# Altium footprint library inductors.PCBLIB: 83 footprints (part 5 of 6)
Each footprint in its own frame and in the unit in brackets; x right, y up, seen from the top. Pads: shape width x height; smd on the part's side, far side on the other; paste and mask are expansions set on the pad; w line width, h text height; cw(c..) or ccw(c..) is an arc to the next point about the centre after c.
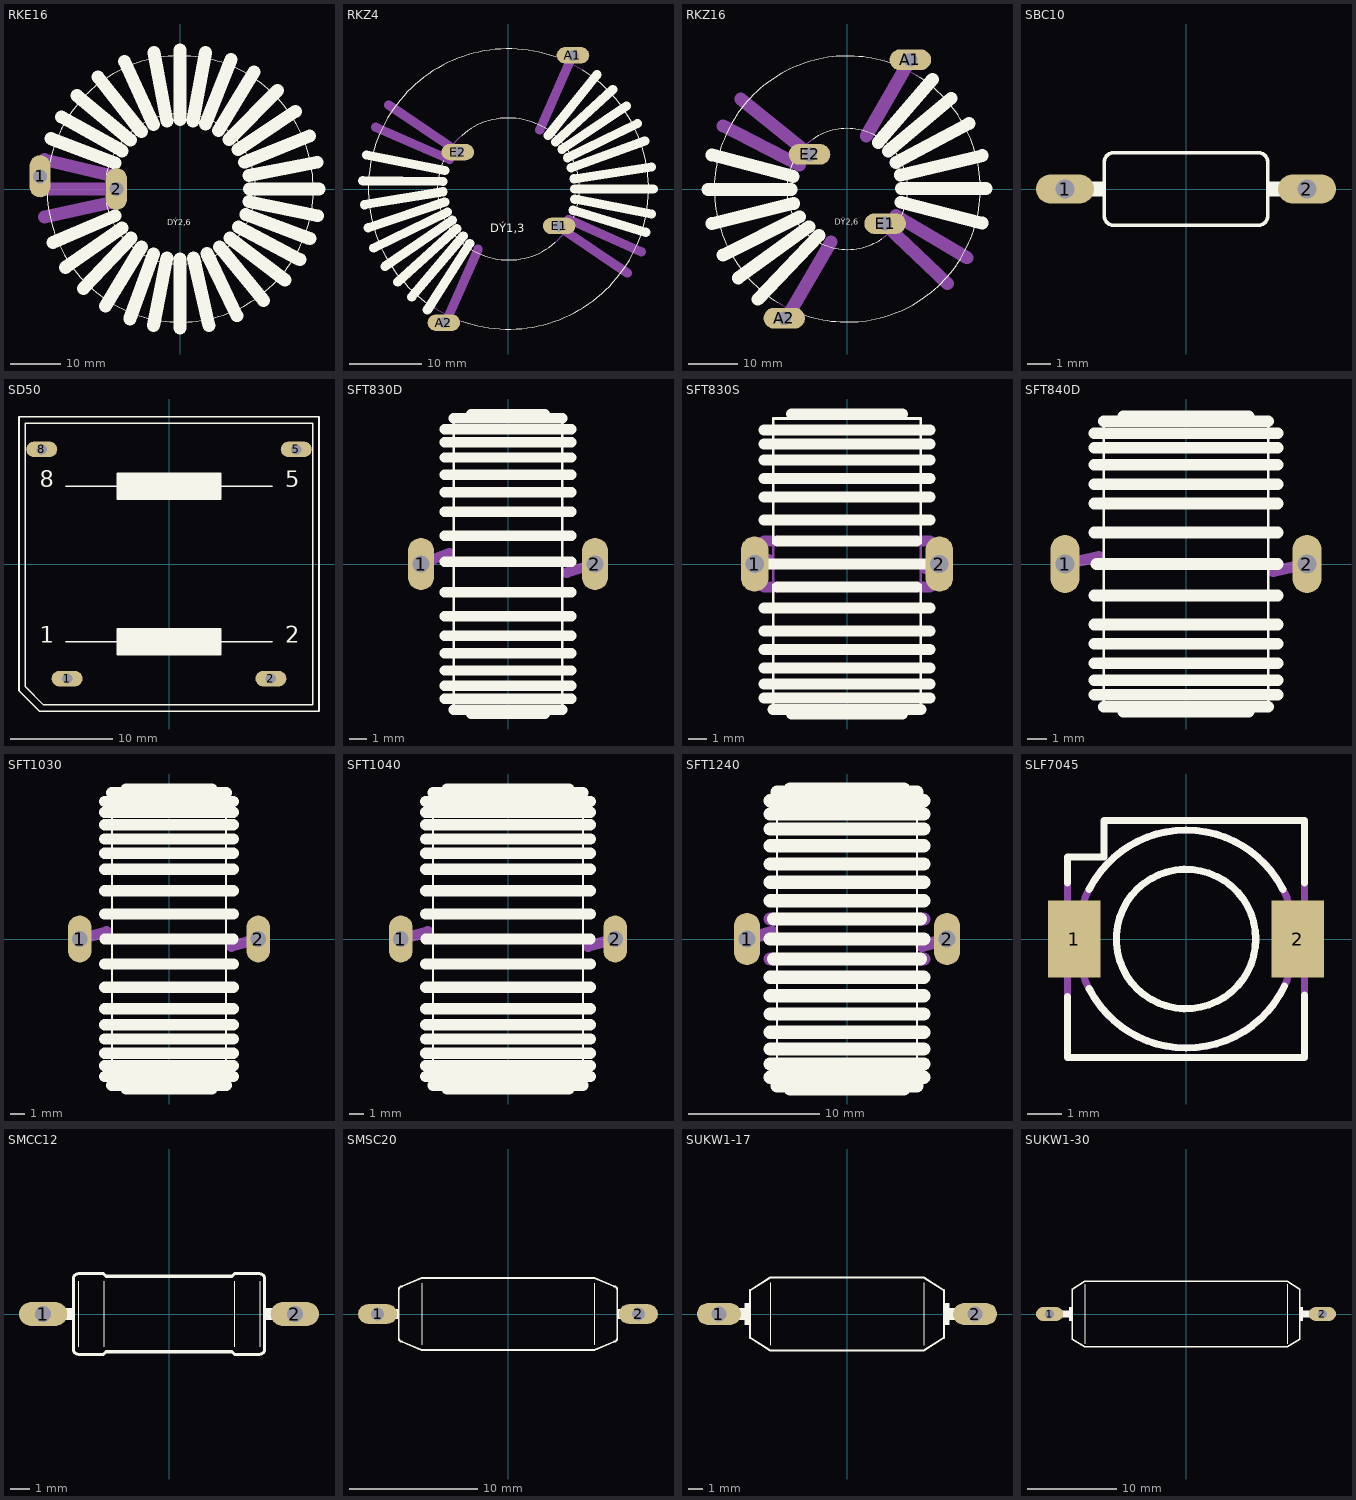
[diagram p4: the footprints below, top view; thin cyan lines are the x and y axes]

## RKE16 [mil]
pads (2):
  oval 165x330 hole 110: 1(-1100,100) 2(-500,0)
Top Overlay:
  lines w6: -1044.95,-10 ccw(c0.02,0.01) -1024.09,208 ; -579.74,-109.52 ccw(c0.01,0) -579.74,109.52
  lines w102: -1015,395 -510,205 ; -1000,-420 -510,-210 ; -930,565 -455,300 ; -900,-615 -455,-305 ; -810,735 -390,385 ; -760,-780 -385,-385 ; -645,880 -305,450 ; -585,-920 -305,-455 ; -435,1000 -210,505 ; -395,-1020 -210,-510 ; -210,-1070 -105,-540 ; -205,1070 -105,535 ; 0,-1090 0,-550 ; 0,545 0,1090 ; 100,535 200,1070 ; 105,-540 225,-1070 ; 200,510 400,1015 ; 210,-505 445,-995 ; 300,460 580,920 ; 310,-455 655,-875 ; 385,390 765,775 ; 390,-385 825,-715 ; 455,310 905,610 ; 460,-300 940,-555 ; 505,210 1015,415 ; 515,-200 1020,-390 ; 540,-100 1080,-210 ; 540,105 1075,210 ; 545,0 1090,0
  text "DÝ2,6" at -100,-300 h77.5
Mechanical 16:
  lines w6: -1044.95,-10 cw(c0.02,0.01) -1024.09,208 ; -579.74,-109.52 cw(c0.01,0) -579.74,109.52
  lines w102: -1090,0 -545,0 ; -1065,-220 -535,-105 ; -1065,230 -535,105

## RKZ4 [mil]
pads (4):
  oval 177x88.5 hole 59: A1(350,725) A2(-350,-725) E1(275,-200) E2(-275,200)
Top Overlay:
  lines w6: -403.18,-644.24 cw(c0,0) 252.82,716.72 ; -353.69,152.09 ccw(c0,0) 254.22,-289.13 ; -254.22,289.13 cw(c0,0) 353.69,-152.09 ; -252.82,-716.72 ccw(c0,0) 403.18,644.24
  lines w50: -790,45 -355,40 ; -780,-85 -355,-15 ; -770,185 -345,100 ; -760,-210 -345,-70 ; -730,-320 -330,-125 ; -670,-420 -305,-170 ; -600,-505 -280,-215 ; -525,-585 -245,-255 ; -440,-655 -210,-295 ; 215,290 480,620 ; 255,255 565,540 ; 290,215 640,450 ; 320,170 700,355 ; 340,115 740,260 ; 350,-115 745,-235 ; 355,55 775,120 ; 360,-55 775,-135 ; 360,0 785,0
  text "DÝ1,3" at -100,-250 h77.5
Mechanical 16:
  lines w6: -403.18,-644.24 ccw(c0.02,-0.01) -252.82,-716.72 ; -353.69,152.09 cw(c-0.02,0) -254.22,289.13 ; 252.82,716.72 cw(c-0.02,0.01) 403.18,644.24 ; 254.22,-289.13 ccw(c0.02,0) 353.69,-152.09
  lines w50: -720,335 -320,160 ; -650,455 -285,210 ; -340,-725 -165,-325 ; 170,320 345,720 ; 280,-210 645,-455 ; 325,-165 720,-340

## RKZ16 [mil]
pads (4):
  oval 330x165 hole 110: A1(500,1025) A2(-500,-1025) E1(300,-275) E2(-300,275)
Top Overlay:
  lines w6: -550.49,-899.99 cw(c0,0) 365.43,989.69 ; -419.26,233.72 ccw(c0,0) 271.35,-395.94 ; -365.43,-989.69 ccw(c0,0) 550.49,899.99 ; -271.35,395.94 cw(c0,0) 419.26,-233.72
  lines w102: -1105,-5 -445,-5 ; -1075,-275 -425,-115 ; -1075,270 -430,100 ; -985,-525 -380,-220 ; -865,-705 -305,-300 ; -710,-875 -225,-370 ; 245,370 675,870 ; 325,300 825,720 ; 385,210 965,520 ; 420,110 1070,265 ; 425,-105 1070,-270 ; 430,5 1100,5
  text "DÝ2,6" at -100,-300 h77.5
Mechanical 16:
  lines w6: -550.49,-899.99 ccw(c0.01,0.01) -365.43,-989.69 ; -419.26,233.72 cw(c-0.01,0) -271.35,395.94 ; 271.35,-395.94 ccw(c0.01,0) 419.26,-233.72 ; 365.43,989.69 cw(c-0.01,-0.01) 550.49,899.99
  lines w102: -985,500 -380,190 ; -845,715 -315,285 ; -485,-1030 -130,-420 ; 150,420 495,1020 ; 310,-290 795,-750 ; 385,-210 950,-545

## SBC10 [mil]
pads (2):
  oval 96x48 hole 32: 1(-200,0) 2(200,0)
Top Overlay:
  rectangle: 135,-12 165,12
  rectangle: -165,-12 -135,12
  lines w6: -135,-45 -135,45 cw(c-120,45) -120,60 120,60 cw(c120,45) 135,45 135,-45 cw(c120,-45) 120,-60 -120,-60 cw(c-120,-45) -135,-45
Mechanical 16:
  lines w24: -200,0 -165,0 ; 165,0 200,0

## SD50 [mil]
pads (4):
  oval 120x60 hole 40: 1(-394,-443) 2(394,-443) 5(492,443) 8(-492,443)
Top Overlay:
  rectangle: -200,-350 200,-250
  rectangle: -200,250 200,350
  lines w6: -400,-300 -200,-300 ; -400,300 -200,300 ; 400,-300 200,-300 ; 400,300 200,300 ; -200,-300 -200,-350 200,-350 200,-300 ; -200,-300 -200,-250 200,-250 200,-300 ; -200,300 -200,250 200,250 200,300 ; -200,300 -200,350 200,350 200,300 ; -580,-490 -580,570 580,570 580,-570 -500,-570 -580,-490 ; -555,-475 -485,-545 555,-545 555,545 -555,545 -555,-475
  text "1" at -500,-325 h108.5
  text "2" at 450,-325 h108.5
  text "5" at 450,275 h108.5
  text "8" at -500,275 h108.5

## SFT830D [mil]
pads (2):
  oval 60x120 hole 40: 1(-200,0) 2(200,0)
Top Overlay:
  lines w6: -125,-335 -125,335 ; 125,-335 125,335
  lines w24: -145,-310 145,-310 ; -145,-280 145,-280 ; -145,-245 145,-245 ; -145,-205 145,-205 ; -145,-165 145,-165 ; -145,-120 145,-120 ; -145,-65 145,-65 ; -145,5 145,5 ; -145,65 145,65 ; -145,120 145,120 ; -145,165 145,165 ; -145,205 145,205 ; -145,245 145,245 ; -145,280 145,280 ; -145,310 145,310 ; -125,-335 125,-335 ; -125,335 125,335 ; -85,-345 85,-345 ; -85,345 85,345
Mechanical 16:
  lines w24: -200,0 -135,25 ; 135,-20 200,0

## SFT830S [mil]
pads (2):
  oval 60x120 hole 40: 1(-200,0) 2(200,0)
Top Overlay:
  lines w6: -160,-315 -160,-45 ; -160,45 -160,315 160,315 160,45 ; 160,-315 160,-45
  lines w24: -180,-290 180,-290 ; -180,-260 180,-260 ; -180,-225 180,-225 ; -180,-185 180,-185 ; -180,-145 180,-145 ; -180,-95 180,-95 ; -180,95 180,95 ; -180,145 180,145 ; -180,185 180,185 ; -180,225 180,225 ; -180,260 180,260 ; -180,290 180,290 ; -175,0 180,0 ; -160,-315 160,-315 ; -150,-50 150,-50 ; -150,50 150,50 ; -120,-325 120,-325 ; -120,325 120,325
Mechanical 16:
  lines w6: -160,-45 -160,45 ; 160,-45 160,45
  lines w24: -200,0 -170,10 ; -180,-50 -155,-50 ; -180,50 -155,50 ; 155,-50 180,-50 ; 155,50 180,50 ; 170,-10 200,0

## SFT840D [mil]
pads (2):
  oval 60x120 hole 40: 1(-250,0) 2(250,0)
Top Overlay:
  lines w6: -170,-295 -170,295 ; 170,-295 170,295
  lines w24: -190,-270 190,-270 ; -190,-240 190,-240 ; -190,-205 190,-205 ; -190,-165 190,-165 ; -190,-125 190,-125 ; -190,-65 190,-65 ; -190,65 190,65 ; -190,125 190,125 ; -190,165 190,165 ; -190,205 190,205 ; -190,240 190,240 ; -190,270 190,270 ; -185,0 190,0 ; -170,-295 170,-295 ; -170,295 170,295 ; -130,-305 130,-305 ; -130,305 130,305
Mechanical 16:
  lines w24: -250,0 -180,15 ; 180,-15 250,0

## SFT1030 [mil]
pads (2):
  oval 66x132 hole 44: 1(-250,0) 2(250,0)
Top Overlay:
  lines w6: -160,-410 -160,410 ; 160,-410 160,410
  lines w30: -180,0 180,0
  lines w32: -180,-385 180,-385 ; -180,-355 180,-355 ; -180,-320 180,-320 ; -180,-280 180,-280 ; -180,-240 180,-240 ; -180,-195 180,-195 ; -180,-135 180,-135 ; -180,-70 180,-70 ; -180,70 180,70 ; -180,135 180,135 ; -180,195 180,195 ; -180,240 180,240 ; -180,280 180,280 ; -180,320 180,320 ; -180,355 180,355 ; -180,385 180,385 ; -160,-410 160,-410 ; -160,410 160,410 ; -120,-420 120,-420 ; -120,420 120,420
Mechanical 16:
  lines w32: -250,0 -175,20 ; 175,-20 250,0

## SFT1040 [mil]
pads (2):
  oval 66x132 hole 44: 1(-300,0) 2(300,0)
Top Overlay:
  lines w6: -210,-410 -210,410 ; 210,-410 210,410
  lines w30: -230,0 230,0
  lines w32: -230,-385 230,-385 ; -230,-355 230,-355 ; -230,-320 230,-320 ; -230,-280 230,-280 ; -230,-240 230,-240 ; -230,-195 230,-195 ; -230,-135 230,-135 ; -230,-70 230,-70 ; -230,70 230,70 ; -230,135 230,135 ; -230,195 230,195 ; -230,240 230,240 ; -230,280 230,280 ; -230,320 230,320 ; -230,355 230,355 ; -230,385 230,385 ; -210,-410 210,-410 ; -210,410 210,410 ; -170,-420 170,-420 ; -170,420 170,420
Mechanical 16:
  lines w32: -300,0 -225,20 ; 225,-20 300,0

## SFT1240 [mil]
pads (2):
  oval 78x156 hole 52: 1(-300,0) 2(300,0)
Top Overlay:
  lines w6: -210,-440 -210,440 ; 210,-440 210,440
  lines w40: -230,-415 230,-415 ; -230,-375 230,-375 ; -230,-330 230,-330 ; -230,-280 230,-280 ; -230,-225 230,-225 ; -230,-170 230,-170 ; -230,-115 230,-115 ; -230,0 230,0 ; -230,115 230,115 ; -230,170 230,170 ; -230,225 230,225 ; -230,280 230,280 ; -230,330 230,330 ; -230,375 230,375 ; -230,415 230,415 ; -220,-60 220,-60 ; -220,60 220,60 ; -210,-440 210,-440 ; -210,440 210,440 ; -170,-450 170,-450 ; -170,450 170,450
Mechanical 16:
  lines w38: -300,0 -225,20 ; 225,-20 300,0
  lines w40: -230,-60 -220,-60 ; -230,60 -220,60 ; 220,-60 230,-60 ; 220,60 230,60

## SLF7045 [mil]
pads (2):
  rect 59.06x86.61 smd: 1(-125.98,0) 2(125.98,0)
Top Overlay:
  circle w8: c0,0 r78.74
  lines w8: -133.86,-64.96 -133.86,-133.86 133.86,-133.86 133.86,-62.99 ; -133.86,62.99 -133.86,92.52 -92.52,92.52 -92.52,133.86 133.86,133.86 133.86,62.99 ; -109.25,-56.1 ccw(c0.25,0) 0,-123.03 ccw(c0.26,0) 111.22,-53.15 ; -109.25,56.1 cw(c0.25,0) 0,123.03 cw(c-0.25,0) 109.25,56.1
Mechanical 16:
  circle w8: c0,0 r123.03
  lines w8: -133.86,-133.86 -133.86,92.52 ; 133.86,-133.86 133.86,133.86

## SMCC12 [mil]
pads (2):
  oval 96x48 hole 32: 1(-250,0) 2(250,0)
Top Overlay:
  rectangle: 190,-12 216,12
  rectangle: -216,-12 -190,12
  lines w2: -180,-65 -180,65 ; -130,-65 -130,65 ; 130,-65 130,65 ; 180,-65 180,65
  lines w6: -190,-70 ccw(c-180,-70) -180,-80 -130,-80 -125,-75 125,-75 130,-80 180,-80 ccw(c180,-70) 190,-70 190,70 ccw(c180,70) 180,80 130,80 125,75 -125,75 -130,80 -180,80 ccw(c-180,70) -190,70 -190,-70
Mechanical 16:
  lines w24: -250,0 -220,0 ; 220,0 250,0

## SMSC20 [mil]
pads (2):
  oval 120x60 hole 40: 1(-400,0) 2(400,0)
Top Overlay:
  rectangle: 335,-16 348,16
  rectangle: -348,-16 -335,16
  lines w2: -265,-95 -265,95 ; 265,-95 265,95
  lines w6: -335,-75 ccw(c-325,-75) -325,-85 -265,-110 265,-110 325,-85 ccw(c325,-75) 335,-75 335,75 ccw(c325,75) 325,85 265,110 -265,110 -325,85 ccw(c-325,75) -335,75 -335,-75
Mechanical 16:
  lines w32: -395,0 -350,0 ; 350,0 395,0

## SUKW1-17 [mil]
pads (2):
  oval 120x60 hole 40: 1(-350,0) 2(350,0)
Top Overlay:
  rectangle: 265,-30 280,30
  rectangle: -280,-30 -265,30
  rectangle: 280,-16 298,16
  rectangle: -298,-16 -280,16
  lines w2: -210,-85 -210,85 ; 210,-85 210,85
  lines w6: -265,-65 -265,65 -210,100 210,100 265,65 265,-65 210,-100 -210,-100 -265,-65
Mechanical 16:
  lines w32: -350,0 -300,0 ; 300,0 350,0

## SUKW1-30 [mil]
pads (2):
  oval 120x60 hole 40: 1(-600,0) 2(600,0)
Top Overlay:
  rectangle: 500,-30 515,30
  rectangle: -515,-30 -500,30
  rectangle: 515,-16 548,16
  rectangle: -548,-16 -515,16
  lines w2: -445,-130 -445,130 ; 445,-130 445,130
  lines w6: -500,-110 -500,110 -445,145 445,145 500,110 500,-110 445,-145 -445,-145 -500,-110
Mechanical 16:
  lines w32: -600,0 -550,0 ; 550,0 600,0